# Altium schematic symbol library SGP41-D-R4.SchLib: 1 symbol
Pins are listed as number, name and electrical type; pins without a type are passive.

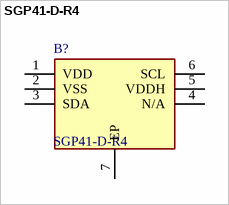
[diagram p0: symbol SGP41-D-R4]

## SGP41-D-R4
designator B?
Air Quality Sensors VOC and NOx (MOX) Gas Pollutant Sensor; Manufacturer_Name: Sensirion; Geometry.Height: 0.95mm; Mouser Part Number: 403-SGP41-D-R4; Mouser Price/Stock: https://www.mouser.co.uk/ProductDetail/Sensirion/SGP41-D-R4?qs=A6eO%252BMLsxmRqwfOE5NYPVA%3D%3D; Manufacturer_Part_Number: SGP41-D-R4; Datasheet Link: https://www.sensirion.com/fileadmin/user_upload/customers/sensirion/Dokumente/9_Gas_Sensors/Datasheets/Sensirion_Gas_Sensors_Datasheet_SGP41.pdf
footprint SON80P244X244X95-7N
pins: 1 VDD, 2 VSS, 3 SDA, 4 N/A, 5 VDDH, 6 SCL, 7 EP